# EAGLE library part 750311856 (library Audioptics_Transformers)
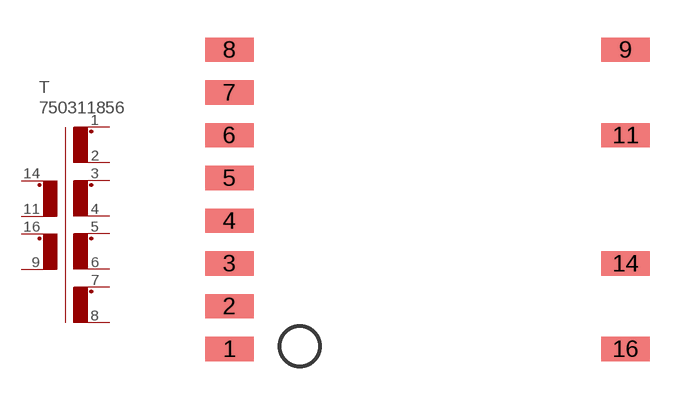
[diagram p0: symbol with the pads of 750311856; footprint 750311856]

Designator prefix T

## 750311856  [750311856]
1  S1_T  pas
2  S1_B  pas
3  S2_T  pas
4  S2_B  pas
5  S3_T  pas
6  S3_B  pas
7  S4_T  pas
8  S4_B  pas
9  P2_B  pas
11  P1_B  pas
14  P1_T  pas
16  P2_T  pas

## Footprint 750311856 (pad centres in mm)
smd 1.93 x 0.965: 1 -7.887,-5.956; 2 -7.887,-4.255; 3 -7.887,-2.553; 4 -7.887,-0.851; 5 -7.887,0.851; 6 -7.887,2.553; 7 -7.887,4.255; 8 -7.887,5.956; 9 7.887,5.956; 11 7.887,2.553; 14 7.887,-2.553; 16 7.887,-5.956